# Altium footprint library PCB_PassiveInd.PcbLib: 7 footprints
Each footprint in its own frame and in the unit in brackets; x right, y up, seen from the top. Pads: shape width x height; smd on the part's side, far side on the other; paste and mask are expansions set on the pad; w line width, h text height; cw(c..) or ccw(c..) is an arc to the next point about the centre after c.
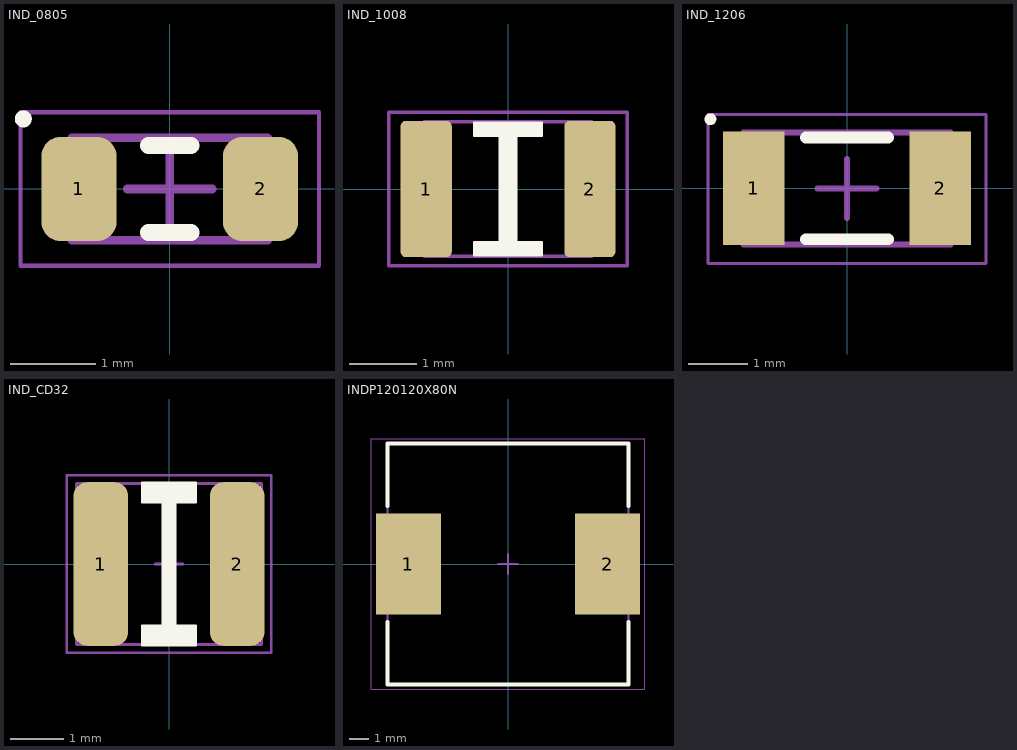
[diagram p0: the footprints below, top view; thin cyan lines are the x and y axes]

## IND_0805 [mm] "Chip Inductor, 2-Leads, Body 2.00x0.90mm, IPC Medium Density"
height 1.2
pads (2):
  rrect50% 0.88x1.22 smd: 1(-1.065,0) 2(1.065,0)
Top Overlay:
  circle w0.1: c-1.717,0.822 r0.05
  lines w0.2: -0.25,-0.51 0.25,-0.51 ; -0.25,0.51 0.25,0.51
Mechanical 13:
  lines w0.1: -1.15,-0.6 1.15,-0.6 1.15,0.6 -1.15,0.6 -1.15,-0.6
B-Component:
  lines w0.05: -1.75,-0.9 1.75,-0.9 1.75,0.9 -1.75,0.9 -1.75,-0.9
  lines w0.1: -0.5,0 0.5,0 ; 0,-0.5 0,0.5
3D body "INDC2012X10L.step": height 1, standoff 0, extent -1,-0.625 1,0.625

## IND_1008 [mil]
height 35.43
pads (2):
  rrect20% 30x80 smd: 1(-48,0) 2(48,0)
Top Overlay:
  region: -19.99,39.01 20.01,39.01 20.01,31.01 5.01,31.01 5.01,-31 20,-31 20,-39 -20,-39 -20,-31 -4.99,-31 -4.99,31.01 -19.99,31.01
  lines w1: -20,-39 20,-39 20,-31 5,-31 5.01,31.01 20.01,31.01 20.01,39.01 -19.99,39.01 -19.99,31.01 -4.99,31.01 -4.99,-31 -20,-31 -20,-39
Mechanical 13:
  lines w2: -49.21,39.37 -49.21,-39.37 49.22,-39.37 49.22,39.37 ; -49.21,39.37 -49.21,39.37 ; -49.21,39.37 49.21,39.37 ; 49.21,39.37 49.22,39.37
T-Component:
  lines w2: -70,-45 70,-45 70,45 -70,45 -70,-45
  text ".Designator" at -31,-20 h80
3D body "INDC2012X10L.step": height 39.37, standoff 0, extent -39.37,-24.6 39.37,24.61

## IND_1206 [mm] "Chip Inductor, 2-Leads, Body 3.20x1.60mm, IPC Medium Density"
height 1.9
pads (2):
  rect 1.04x1.92 smd: 1(-1.58,0) 2(1.58,0)
Top Overlay:
  circle w0.1: c-2.312,1.172 r0.05
  lines w0.2: -0.7,-0.86 0.7,-0.86 ; -0.7,0.86 0.7,0.86
Mechanical 13:
  lines w0.1: -1.75,-0.95 1.75,-0.95 1.75,0.95 -1.75,0.95 -1.75,-0.95
B-Component:
  lines w0.05: -2.35,-1.27 2.35,-1.27 2.35,1.25 -2.35,1.25 -2.35,-1.27
  lines w0.1: -0.5,0 0.5,0 ; 0,-0.5 0,0.5
3D body "INDC3216X130N EIA 1206.step": height 1.3, standoff 0, extent -1.6,-0.8 1.6,0.8

## IND_1210 [mil]
height 35.43
3D body "INDC3225X135N EIA 1210.step": height 53.15, standoff 0, extent -62.99,-49.2 63,49.22

## IND_CD32 [mil]
pads (2):
  rrect50% 40x120 smd: 1(-50,0) 2(50,0)
Top Overlay:
  region: -20,60 20,60 20,45 5,45 5,-45 20,-45 20,-60 -20,-60 -20,-45 -5,-45 -5,45 -20,45
  lines w1: -20,-60 20,-60 20,-45 5,-45 5,45 20,45 20,60 -20,60 -20,45 -5,45 -5,-45 -20,-45 -20,-60
Mechanical 13:
  lines w2: -10,0 10,0 ; 0,-10 0,10 ; -67.88,-59.05 -67.88,59.06 67.88,59.06 67.88,-59.05 -67.88,-59.05
T-Component:
  lines w2: -75,-65 -75,65 75,65 75,-65 -75,-65
3D body "User Library-CD32-3_5x2_1.STEP": height 82.68, standoff 0, extent -67.88,-59.05 67.88,59.06

## INDP120120X80N [mm] "Precision Wire Wound Inductor, 2-Leads, Body 12.00x12.00mm, IPC Medium Density"
height 8
pads (2):
  rect 3.3x5.1 smd: 1(-5.05,0) 2(5.05,0)
Top Overlay:
  lines w0.2: -6.1,-2.95 -6.1,-6.1 6.1,-6.1 6.1,-2.95 ; -6.1,2.95 -6.1,6.1 6.1,6.1 6.1,2.95
Mechanical 13:
  lines w0.1: -6.1,-6.1 -6.1,6.1 6.1,6.1 6.1,-6.1 -6.1,-6.1
B-Component:
  lines w0.05: -6.925,-6.35 -6.925,6.35 6.925,6.35 6.925,-6.35 -6.925,-6.35
  lines w0.1: -0.5,0 0.5,0 ; 0,-0.5 0,0.5
3D body "70277059.stp": height 6, standoff 0, extent -6.25,-6.25 6.25,6.25

## Z_REC [mil]
3D body "User Library-Chip Inductor 0402.step": height 19.68, standoff 0, extent 52.31,23.19 91.69,46.81
3D body "INDC1005X05L.step": height 19.68, standoff 0, extent -19.68,25.16 19.69,44.85
3D body "INDC1608X08L.step": height 31.5, standoff 0, extent -31.49,-15.74 31.5,15.75
3D body "User Library-Chip Inductor.step": height 31.5, standoff 0, extent 40.5,-17.7 103.5,19.7